# Altium schematic symbol library tmc2209.SchLib: 1 symbol
Pins are listed as number, name and electrical type; pins without a type are passive.

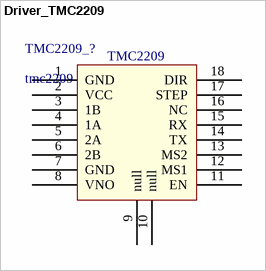
[diagram p0: symbol Driver_TMC2209]

## Driver_TMC2209
designator TMC2209_?, comment tmc2209
footprint TMC2209
pins: 1 GND, 2 VCC, 3 1B, 4 1A, 5 2A, 6 2B, 7 GND, 8 VNO, 9 null, 10 null, 11 EN, 12 MS1, 13 MS2, 14 TX, 15 RX, 16 NC, 17 STEP, 18 DIR
text: TMC2209